# EAGLE library part LIPO_DW01-P (library v13)
One Cell Lithium-ion/Polymer Battery Protection IC The DW01-P battery protection IC is designed to protect lithium-ion/polymer battery from damage or degrading the lifetime due to overcharge, overdischarge, and/or overcurrent for one-cell lithium-ion/polymer battery powered systems, such as cellular phones. The ultra-small package and less required external components make it ideal to integrate the DW01-P into the limited space of battery pack. The accurate ±50mV overcharging detection voltage ensures safe and full utilization charging. The very low standby current drains little current from the cell while in storage.
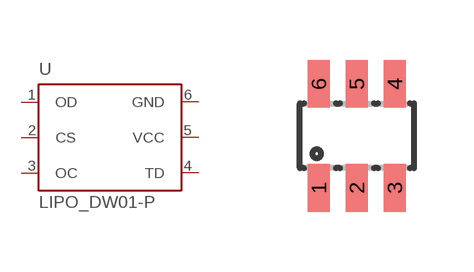
[diagram p11: symbol with the pads of LIPO_SOT23-6L; footprint LIPO_SOT23-6L]

Designator prefix -

## LIPO_DW01-P  [LIPO_SOT23-6L]
1  OD  pwr
2  CS  in
3  OC  pwr
4  TD  out
5  VCC  in
6  GND  out

## Footprint LIPO_SOT23-6L (pad centres in mm)
Small Outline Transistor
smd 0.55 x 1.2: 1 -0.95,-1.3; 2 0,-1.3; 3 0.95,-1.3; 4 0.95,1.3; 5 0,1.3; 6 -0.95,1.3